# EAGLE library part MAX9636 (library SC_70_74ah)
SC70-6, MAX9636
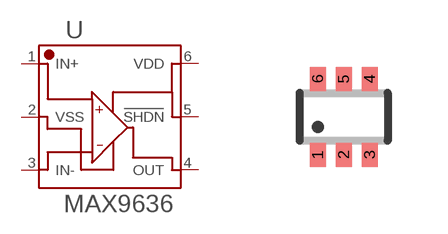
[diagram p0: symbol with the pads of SC70-6; footprint SC70-6]

Designator prefix -

## MAX9636  [SC70-6]
1  IN+  in
2  VSS  pwr
3  IN-
4  OUT  out
5  SHDN
6  VDD  pwr

## Footprint SC70-6 (pad centres in mm)
SC-70 Package - Fairchild
smd 0.4 x 0.6: 1 -0.65,-0.95; 2 0,-0.95; 3 0.65,-0.95; 4 0.65,0.95; 5 0,0.95; 6 -0.65,0.95